# Altium schematic symbol library PDM-CARD-SCHLib-V00.SchLib: 9 symbols
Pins are listed as number, name and electrical type; pins without a type are passive.

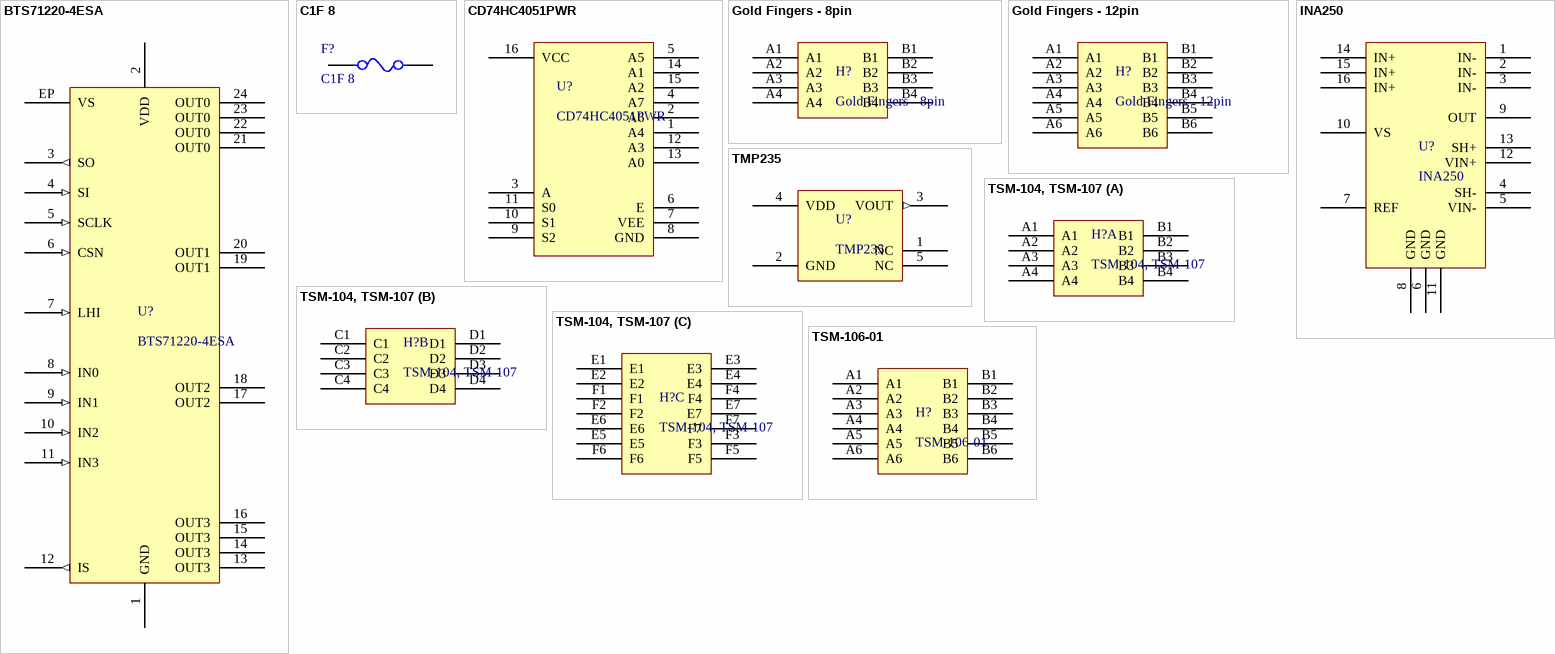
[diagram p0: symbols BTS71220-4ESA to TSM-106-01]

## BTS71220-4ESA
designator U?
The BTS71220-4ESA is a SPI Power Controller, providing protection functions and diagnosis. The device is integrated in SMART7 technology.; ComponentLink1Description: Datasheet; ComponentLink1URL: https://www.infineon.com/dgdl/Infineon-BTS71220-4ESA-DS-v01_00-EN.pdf?fileId=5546d462636cc8fb0163feaaf85408d1; ComponentLink2Description: Digikey; ComponentLink2URL: https://www.digikey.com.au/product-detail/en/infineon-technologies/BTS712204ESAXUMA1/BTS712204ESAXUMA1CT-ND/9678741
footprint PG-TSDO-24-32
pins: 1 GND (power), 2 VDD (power), 3 SO (out), 4 SI (in), 5 SCLK (in), 6 CSN (in), 7 LHI (in), 8 IN0 (in), 9 IN1 (in), 10 IN2 (in), 11 IN3 (in), 12 IS (out), 13 OUT3, 14 OUT3, 15 OUT3, 16 OUT3, 17 OUT2, 18 OUT2, 19 OUT1, 20 OUT1, 21 OUT0, 22 OUT0, 23 OUT0, 24 OUT0, EP VS

## C1F 8
designator F?
8A 125V AC 63V DC Fuse Board Mount (Cartridge Style Excluded) Surface Mount 1206 (3216 Metric); ComponentLink1Description: Datasheet; ComponentLink1URL: https://belfuse.com/resources/datasheets/circuitprotection/ds-cp-c1f-series.pdf; ComponentLink2Description: Digikey; ComponentLink2URL: https://www.digikey.com.au/product-detail/en/bel-fuse-inc/C1F-8/507-1889-1-ND/4968171
footprint FUSE_1206
pins: 1, 2

## CD74HC4051PWR
designator U?
IC MUX/DEMUX 8X1 16TSSOP; ComponentLink1Description: Datasheet; ComponentLink1URL: https://www.ti.com/lit/ds/symlink/cd74hc4051.pdf?HQS=TI-null-null-digikeymode-df-pf-null-wwe&ts=1595658940184; ComponentLink2Description: Digikey; ComponentLink2URL: https://www.digikey.com/product-detail/en/texas-instruments/CD74HC4051PWR/296-13031-1-ND/480146
footprint TSSOP-16N (TSOP, 16-Leads, Body 5.00x4.40mm, Pitch 0.65mm, IPC Medium Density)
pins: 1 A4, 2 A6, 3 A, 4 A7, 5 A5, 6 E, 7 VEE, 8 GND, 9 S2, 10 S1, 11 S0, 12 A3, 13 A0, 14 A1, 15 A2, 16 VCC

## Gold Fingers - 8pin
designator H?
footprint Gold Fingers - 8pin
pins: A1, A2, A3, A4, B1, B2, B3, B4

## Gold Fingers - 12pin
designator H?
footprint Gold Fingers - 12pin
pins: A1, A2, A3, A4, A5, A6, B1, B2, B3, B4, B5, B6

## INA250
designator U?
INA250 36-V, Low- or High-Side, Bidirectional, Zero-Drift Current-Shunt Monitor with Precision Integrated Shunt Resistor; ComponentLink1Description: Datasheet; ComponentLink1URL: https://www.ti.com/lit/ds/symlink/ina250.pdf?HQS=TI-null-null-digikeymode-df-pf-null-wwe&ts=1595428770724; ComponentLink2Description: Digikey - A4; ComponentLink2URL: https://www.digikey.com.au/product-detail/en/texas-instruments/INA250A4PWR/296-43804-1-ND/5870052
footprint TSSOP-16N (TSOP, 16-Leads, Body 5.00x4.40mm, Pitch 0.65mm, IPC Medium Density)
pins: 1 IN-, 2 IN-, 3 IN-, 4 SH-, 5 VIN-, 6 GND, 7 REF, 8 GND, 9 OUT, 10 VS, 11 GND, 12 VIN+, 13 SH+, 14 IN+, 15 IN+, 16 IN+

## TMP235
designator U?
TMP235, Low-Power, High-Accuracy Analog Output Temperature Sensor; ComponentLink1Description: Datasheet; ComponentLink1URL: https://www.ti.com/lit/ds/symlink/tmp235.pdf?HQS=TI-null-null-digikeymode-df-pf-null-wwe&ts=1595645947985; ComponentLink2Description: Digikey; ComponentLink2URL: https://www.digikey.com.au/product-detail/en/texas-instruments/TMP235A4DCKR/296-50016-1-ND/9462854
footprint SC70 (SC70, 5-leads)
pins: 1 NC, 2 GND, 3 VOUT (out), 4 VDD, 5 NC

## TSM-104, TSM-107
designator H?
CONN HEADER SMD R/A 8POS and 14POS 2.54MM; ComponentLink1Description: Digikey; ComponentLink1URL: https://www.digikey.com.au/product-detail/en/samtec-inc/TSM-104-01-L-DH/SAM10277-ND/6679014; ComponentLink2Description: Digikey; ComponentLink2URL: https://www.digikey.com.au/product-detail/en/samtec-inc/TSM-107-01-L-DH/SAM15902-ND/7638593; ComponentLink3Description: Datasheet; ComponentLink3URL: http://suddendocs.samtec.com/catalog_english/tsm.pdf
footprint TSM-104, TSM-107
part A pins: A1, A2, A3, A4, B1, B2, B3, B4
part B pins: C1, C2, C3, C4, D1, D2, D3, D4
part C pins: E1, E2, E3, E4, E5, E6, E7, F1, F2, F3, F4, F5, F6, F7

## TSM-106-01
designator H?
CONN HEADER SMD R/A 12POS 2.54MM; ComponentLink1Description: Datasheet; ComponentLink1URL: https://www.digikey.com.au/en/datasheets/samtecinc/samtec-inctsm; ComponentLink2Description: Digikey; ComponentLink2URL: https://www.digikey.com.au/product-detail/en/samtec-inc/TSM-106-01-T-DH/SAM8986-ND/2685652
footprint TSM-1XX-XX-X-DH
pins: A1, A2, A3, A4, A5, A6, B1, B2, B3, B4, B5, B6